# Altium schematic symbol library KNoT_Thing.SchLib: 36 symbols
Pins are listed as number, name and electrical type; pins without a type are passive.

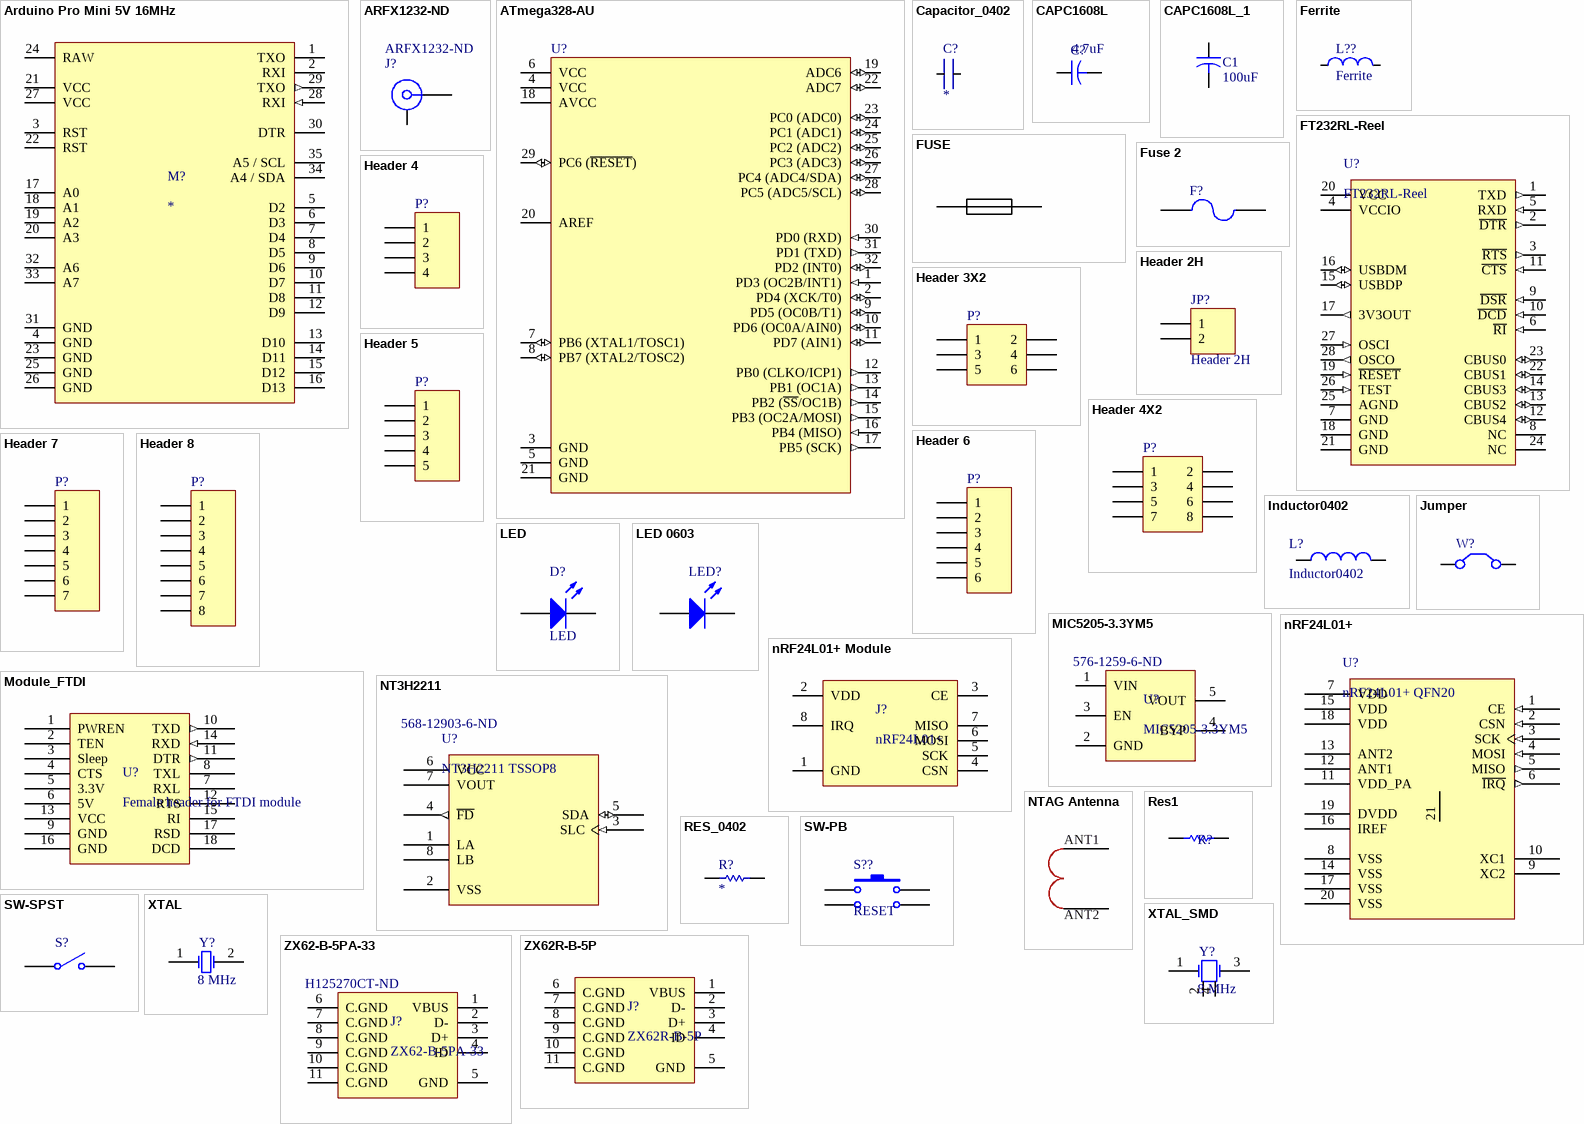
[diagram p0: symbols Arduino Pro Mini 5V 16MHz to ZX62R-B-5P]

## Arduino Pro Mini 5V 16MHz
designator M?
footprint Arduino Pro Mini (Arduino Pro Mini Module)
pins: 1 TXO, 2 RXI, 3 RST, 4 GND, 5 D2, 6 D3, 7 D4, 8 D5, 9 D6, 10 D7, 11 D8, 12 D9, 13 D10, 14 D11, 15 D12, 16 D13, 17 A0, 18 A1, 19 A2, 20 A3, 21 VCC, 22 RST, 23 GND, 24 RAW, 25 GND, 26 GND, 27 VCC, 28 RXI (in), 29 TXO (out), 30 DTR, 31 GND, 32 A6, 33 A7, 34 A4 / SDA, 35 A5 / SCL

## ARFX1232-ND
designator J?  Supplier Part Number 1: ARFX1232-ND
SMA Right Angle Jack, Up to 18 GHz, -65 to 165 degC; PartNumber: 32K249-400L5; Design Note: Footprint in library is a generic example - only application specific footprint delivers High Performance; DatasheetVersion: b00; PackageVersion: b00; PackageReference: 32K249-400L5; PackageDescription: SMA Right Angle Jack, 14.8 x 6.35 x 9.7 mm; Mounting Technology: Through Hole; ComponentLink1Description: Manufacturer URL; ComponentLink1URL: http://www.rosenberger.de; ComponentLink2Description: Datasheet; ComponentLink2URL: http://rosenberger.de/ok/images/documents/db/32K249-400L5.pdf; ComponentLink3Description: Package Specification; ComponentLink3URL: http://rosenberger.de/ok/images/documents/db/32K249-400L5.pdf; ComponentLink4Description: Series Overview / Design Note; ComponentLink4URL: http://rosenberger.de/ok/images/documents/spez/32.pdf; ComponentLink5Description: Webshop / RFQ; ComponentLink5URL: http://www.rosenberger.com/en/contact/sales/; Supplier 1: Digi-Key
footprint ROS-32K249-400L5_V (SMA Right Angle Jack, 14.8x6.35x9.7mm, Rosenberger Recommended)
pins: 1, MH

## ATmega328-AU
designator U?
8-bit AVR Microcontroller, 32KB Flash, 1KB EEPROM, 2KB SRAM, 32-pin TQFP, Industrial Grade (-40°C to 85°C); DatasheetVersion: revD, May-2011; PackageVersion: revC, Oct-2010; PackageReference: 32A; PackageDescription: 32-Lead, 7x7x1.0 mm Body, 0.8mm Lead Pitch, Thin Profile Plastic Quad Flat Package (TQFP); Code_JEDEC: MS-026-ABA; ComponentLink1Description: Manufacturer URL; ComponentLink1URL: http://www.atmel.com/; ComponentLink2Description: ATmega48A/48PA/88A/88PA/168A/168PA/328/328P Datasheet; ComponentLink2URL: http://www.atmel.com/dyn/resources/prod_documents/doc8271.pdf; ComponentLink3Description: ATmega48A/48PA/88A/88PA/168A/168PA/328/328P Summary; ComponentLink3URL: http://www.atmel.com/dyn/resources/prod_documents/8271S.pdf; Supplier 1: Digi-Key; Supplier Part Number 1: ATMEGA328-AU-ND
footprint 32A_L (Thin QFP, 32-Leads, Body 7x7mm, Pitch 0.8mm, IPC High Density)
pins: 1 PD3 (OC2B/INT1) (in), 2 PD4 (XCK/T0) (io), 3 GND (power), 4 VCC (power), 5 GND (power), 6 VCC (power), 7 PB6 (XTAL1/TOSC1) (io), 8 PB7 (XTAL2/TOSC2) (io), 9 PD5 (OC0B/T1) (io), 10 PD6 (OC0A/AIN0) (io), 11 PD7 (AIN1) (io), 12 PB0 (CLKO/ICP1) (out), 13 PB1 (OC1A) (out), 14 PB2 (~{SS}/OC1B) (out), 15 PB3 (OC2A/MOSI) (out), 16 PB4 (MISO) (in), 17 PB5 (SCK) (out), 18 AVCC (power), 19 ADC6 (io), 20 AREF, 21 GND (power), 22 ADC7 (io), 23 PC0 (ADC0) (io), 24 PC1 (ADC1) (io), 25 PC2 (ADC2) (io), 26 PC3 (ADC3) (io), 27 PC4 (ADC4/SDA) (io), 28 PC5 (ADC5/SCL) (io), 29 PC6 (~{RESET}) (io), 30 PD0 (RXD) (in), 31 PD1 (TXD) (out), 32 PD2 (INT0) (io)

## Capacitor_0402
designator C?, comment Cap_0402  (value not drawn)
Chip Capacitor 0402 (1005 metric); Value: *
footprint CAPC1005L
pins: 1, 2 0

## CAPC1608L
designator C?  value 4.7uF  (hidden comment: CAPC1608L)
4.7µF 10V Ceramic Capacitor X5R 0603; Published: 23-Sep-2002; PackageReference: CC0603KRX5R6BB475; Publisher: Altium Limited; PackageDescription: Capacitor; 2 Leads
footprint CAPC1608L
pins: 1, 2

## CAPC1608L_1
designator C1, comment value 100uF  (hidden comment: CAPC_RADIAL_100)
Capacitor 100µF; Published: 23-Sep-2002; PackageReference: CC0603KRX5R6BB475; Publisher: Altium Limited; PackageDescription: Capacitor; 2 Leads
footprint CAPC1608L
footprint CAP Radial 100uF
footprint CAP RADIAL MINIATURE
footprint CAP RADIAL 5mm
pins: 1, 2

## Ferrite
designator L??
BLM18AG121SN1 FERRITE 120 OHM 500MA 0603
footprint 0603-cap (0603 Hermes)
pins: 1, 2

## FT232RL-Reel
designator U?
USB UART Asynchronous Serial Data Transfer Chip, 28-pin SSOP, Tape and Reel; Manufacturer: FTDI; DatasheetVersion: ver 2.10, Mar-2012; PackageVersion: Mar-12; PackageReference: SSOP-28; PackageDescription: 28-Pin Small Outline Package 0.65 mm Pitch; PartNumber: FT232RL-Reel; ComponentLink1Description: Manufacturer URL; ComponentLink1URL: http://www.ftdichip.com/; ComponentLink2Description: Datasheet; ComponentLink2URL: http://www.ftdichip.com/Support/Documents/DataSheets/ICs/DS_FT232R.pdf; Supplier 1: Digi-Key; Supplier Part Number 1: 768-1007-6-ND
footprint SSOP-28_N (SOP, 28-Leads, Body 10.2x5.3mm, Pitch 0.65mm, IPC Medium Density)
pins: 1 TXD (out), 2 ~{DTR} (out), 3 ~{RTS} (out), 4 VCCIO (power), 5 RXD (in), 6 ~{RI} (in), 7 GND (power), 8 NC, 9 ~{DSR} (in), 10 ~{DCD} (in), 11 ~{CTS} (in), 12 CBUS4 (io), 13 CBUS2 (io), 14 CBUS3 (io), 15 USBDP (io), 16 USBDM (io), 17 3V3OUT (out), 18 GND (power), 19 ~{RESET} (in), 20 VCC (power), 21 GND (power), 22 CBUS1 (io), 23 CBUS0 (io), 24 NC, 25 AGND (power), 26 TEST (in), 27 OSCI (in), 28 OSCO (out)

## FUSE
designator F?
04-Pin Edge Connector; LatestRevisionDate: 17-Jul-2002; LatestRevisionNote: Re-released for DXP Platform.; Publisher: Altium Limited
pins: 1, 2

## Fuse 2
designator F?, comment 0402L050SLKR  (value not drawn)
PTC Resettable Fuse 6V 500mA Ih Surface Mount 0402 (1005 Metric), Concave; PartNumb: F5759DKR-ND
footprint 0805L (0805 Hermes)
footprint FUSE 300V TL TE5 LL 1A (Littelfuse Inc)
pins: 1, 2

## Header 2H
designator JP?
Header, 2-Pin, Right Angle; LatestRevisionDate: 17-Jul-2002; LatestRevisionNote: Re-released for DXP Platform.; Publisher: Altium Limited
signal-integrity model Connector
footprint HDR1X2 (Connector; Header; 2 Position)
pins: 1, 2

## Header 3X2
designator P?
Header, 3-Pin, Dual row; LatestRevisionDate: 17-Jul-2002; LatestRevisionNote: Re-released for DXP Platform.; Publisher: Altium Limited
footprint HDR2X3 (Connector; Header; 3x2 Position)
signal-integrity model Connector
pins: 1, 2, 3, 4, 5, 6

## Header 4
designator P?
Header, 4-Pin; LatestRevisionDate: 17-Jul-2002; LatestRevisionNote: Re-released for DXP Platform.; Publisher: Altium Limited
footprint HDR1X4 (Connector; Header; 4 Position)
signal-integrity model Connector
pins: 1, 2, 3, 4

## Header 4X2
designator P?
Header, 4-Pin, Dual row; LatestRevisionDate: 17-Jul-2002; LatestRevisionNote: Re-released for DXP Platform.; Publisher: Altium Limited
footprint HDR2X4 (Connector; Header; 4x2 Position)
signal-integrity model Connector
pins: 1, 2, 3, 4, 5, 6, 7, 8

## Header 5
designator P?
Header, 5-Pin; LatestRevisionDate: 17-Jul-2002; LatestRevisionNote: Re-released for DXP Platform.; Publisher: Altium Limited
footprint HDR1X5 (Connector; Header; 5 Position)
signal-integrity model Connector
pins: 1, 2, 3, 4, 5

## Header 6
designator P?
Header, 6-Pin; LatestRevisionDate: 17-Jul-2002; LatestRevisionNote: Re-released for DXP Platform.; Publisher: Altium Limited
footprint HDR1X6 (Connector; Header; 6 Position)
signal-integrity model Connector
pins: 1, 2, 3, 4, 5, 6

## Header 7
designator P?
Header, 7-Pin; LatestRevisionDate: 17-Jul-2002; LatestRevisionNote: Re-released for DXP Platform.; Publisher: Altium Limited
footprint HDR1X7 (Connector; Header; 7 Position)
signal-integrity model Connector
pins: 1, 2, 3, 4, 5, 6, 7

## Header 8
designator P?
Header, 8-Pin; LatestRevisionDate: 17-Jul-2002; LatestRevisionNote: Re-released for DXP Platform.; Publisher: Altium Limited
footprint HDR1X8 (Connector; Header; 8 Position)
signal-integrity model Connector
pins: 1, 2, 3, 4, 5, 6, 7, 8

## Inductor0402
designator L?
Inductor 27nH
footprint CAPC1005L
pins: 1, 2

## Jumper
designator W?
Jumper Wire; Published: 24-Mar-1999; LatestRevisionDate: 17-Jul-2002; LatestRevisionNote: Re-released for DXP Platform.; PackageReference: RAD-0.2; Publisher: Altium Limited; PackageDescription: Radial Cap, Thru-Hole; 2 Leads; 0.2 in Pin Spacing
footprint HDR1X2 (Connector; Header; 2 Position)
pins: 1 C1, 2 C2

## LED
designator D?
Typical RED, GREEN, YELLOW, AMBER GaAs LED; Published: 8-Jun-2000; LatestRevisionDate: 17-Jul-2002; LatestRevisionNote: Re-released for DXP Platform.; PackageVersion: Feb-2002; PackageReference: 3.2X1.6X1.1; Publisher: Altium Limited; PackageDescription: SM LED; 2 Flat Leads
footprint LED
pins: 1 A, 2 K

## LED 0603
designator LED?  (value not drawn)
LED SMD 0603
footprint 0603_LED (LED tamanho 0603)
pins: 1 A, 2 K

## MIC5205-3.3YM5
designator U?  Supplier Part Number 1: 576-1259-6-ND
Voltage Regulator; Supplier 1: Digi-Key
footprint SOT23-5
pins: 1 VIN, 2 GND, 3 EN, 4 BYP, 5 VOUT

## Module_FTDI
designator U?, comment Female header for FTDI module
Connection header for custom FTDI module
footprint FTDI_Module (FTDI custom module)
pins: 1 PWREN, 2 TEN, 3 Sleep, 4 CTS, 5 3.3V, 6 5V, 7 RXL, 8 TXL, 9 GND, 10 TXD (out), 11 DTR (out), 12 RTS, 13 VCC, 14 RXD (in), 15 RI, 16 GND, 17 RSD, 18 DCD

## nRF24L01+
designator U?, comment nRF24L01+ QFN20
IC RF TxRx Only General ISM > 1GHZ 2.4GHz; Supplier 1: Digi-Key; Supplier Part Number 1: 1490-1019-ND
footprint QFN20
pins: 1 CE (in), 2 CSN (in), 3 SCK (in), 4 MOSI (in), 5 MISO (out), 6 ~{IRQ} (out), 7 VDD (power), 8 VSS (power), 9 XC2, 10 XC1, 11 VDD_PA, 12 ANT1, 13 ANT2, 14 VSS (power), 15 VDD (power), 16 IREF (power), 17 VSS (power), 18 VDD (power), 19 DVDD (power), 20 VSS (power), 21 (power)

## nRF24L01+ Module
designator J?, comment nRF24L01+
2x4 Female Header Conector
footprint nRF24L01+ Module (nRF24L01+ Module Microstrip antenna)
pins: 1 GND, 2 VDD, 3 CE, 4 CSN, 5 SCK, 6 MOSI, 7 MISO, 8 IRQ

## NT3H2211
designator U?, comment NT3H2211 TSSOP8  Supplier Part Number 1: 568-12903-6-ND
RFID Transponder IC 13.56MHz ISO 14443 I²C; Part Number: 568-12903-6-ND; Supplier 1: Digi-Key
pins: 1 LA, 2 VSS (power), 3 SLC (in), 4 ~{FD} (out), 5 SDA (io), 6 VCC (power), 7 VOUT (power), 8 LB

## NTAG Antenna
designator A?  (value not drawn)
footprint 54X27_3TURNS_THIN
pins: 1, 2
text: ANT1; ANT2

## Res1
designator R?
Resistor; Published: 8-Jun-2000; LatestRevisionDate: 17-Jul-2002; LatestRevisionNote: Re-released for DXP Platform.; PackageReference: AXIAL-0.3; Publisher: Altium Limited; PackageDescription: Axial Device, Thru-Hole; 2 Leads; 0.3 in Pin Spacing
simulation model RESISTOR (Resistor)
signal-integrity model Res
footprint AXIAL-3mm (Axial Device, Thru-Hole; 2 Leads; 3.3mm in Pin Spacing)
pins: 1, 2

## RES_0402
designator R?  (value not drawn)
Precision Thick Film Chip Resistor, 10 Ohm to 1M Ohm Range, 1% and 0.5% Tolerance, 0805 Size, 1/8 W; Value: *
footprint CAPC1005L
pins: 1, 2

## SW-PB
designator S??, comment RESET
B3F-1002 SWITCH TACT 6MM MOM 150GF; Published: 24-Mar-1999; LatestRevisionDate: 17-Jul-2002; LatestRevisionNote: Re-released for DXP Platform.; PackageReference: SPST-2; Publisher: Altium Limited
footprint SW-TACT (SWITCH TACT 6MM MOM 150GF PTH)
pins: 1, 2, 3, 4

## SW-SPST
designator S?
Single-Pole, Single-Throw Switch; Published: 24-Mar-1999; LatestRevisionDate: 17-Jul-2002; LatestRevisionNote: Re-released for DXP Platform.; PackageReference: SPST-2; Publisher: Altium Limited; PackageDescription: Switch; 2 Leads
footprint SWITCH TS-1181
pins: 1 COMMON, 2 NO

## XTAL
designator Y?, comment 8 MHz
Crystal FOXSLF/080-20
footprint XTAL_8MHz (Cristal 8 MHz FOXSLF/080-20  20pF)
footprint CX5032GB (Quartz Crystal 8MHz)
pins: 1 OSC1, 2 OSC2

## XTAL_SMD
designator Y?, comment 8 MHz
Crystal FOXSLF/080-20
footprint SPK-16M-5032 (Crystal Oscilator)
pins: 1 OSC1, 2, 3 OSC2, 4

## ZX62-B-5PA-33
designator J?  Supplier Part Number 1: H125270CT-ND
USB Connector; Supplier 1: Digi-Key
footprint Micro USB b
pins: 1 VBUS, 2 D-, 3 D+, 4 ID, 5 GND, 6 C.GND, 7 C.GND, 8 C.GND, 9 C.GND, 10 C.GND, 11 C.GND

## ZX62R-B-5P
designator J?
USB Connector; Supplier 1: Digi-Key; Supplier Part Number 1: H11574TR-ND
footprint Micro USB b
pins: 1 VBUS, 2 D-, 3 D+, 4 ID, 5 GND, 6 C.GND, 7 C.GND, 8 C.GND, 9 C.GND, 10 C.GND, 11 C.GND